# Altium integrated library TL081.IntLib: 1 symbol
Pins are listed as number, name and electrical type; pins without a type are passive.

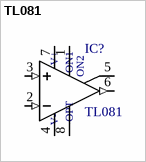
[diagram p0: symbol TL081]

## TL081
designator IC?
the tl08x jfet-input operational amplifier family is designed to offer a wider selection than any previously develope...; MF: Texas Instruments; Package: None; MP: TL081; Price: None; Availability: Unavailable; SnapEDA_Link: https://www.snapeda.com/parts/TL081/Texas%20Instruments/view-part/?ref=snap; Value: *
footprint DIL08
pins: 1 ON1, 2 -IN (in), 3 +IN (in), 4 V- (power), 5 ON2, 6 OUT (out), 7 V+ (power), 8 OPT